# EAGLE library part 68HC908JK3 (library MOTOROLA)
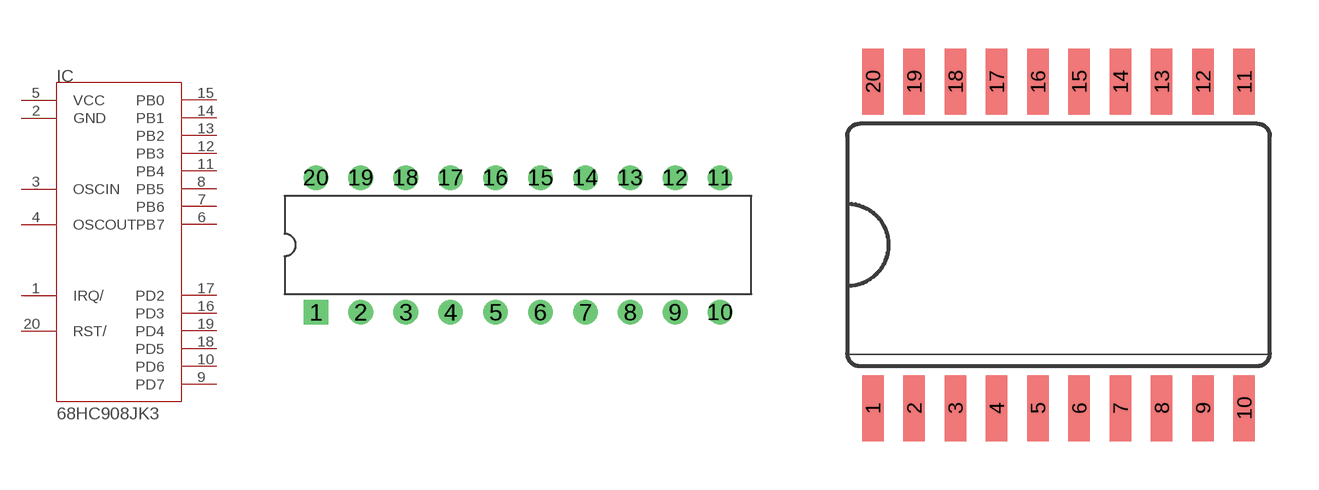
[diagram p52: symbol with the pads of DIL20; footprints DIL20, SOIC20W]

Designator prefix IC

## 68HC908JK3  [DIL20]
1  IRQ/
2  GND
3  OSCIN
4  OSCOUT
5  VCC
6  PB7
7  PB6
8  PB5
9  PD7
10  PD6
11  PB4
12  PB3
13  PB2
14  PB1
15  PB0
16  PD3
17  PD2
18  PD5
19  PD4
20  RST/

## 68HC908JK3SMD  [SOIC20W]
Pads as for DIL20

## Footprint DIL20 (pad centres in mm)
drill 0.813 pad 1.397 square: 1 -11.43,-3.81
drill 0.813 pad 1.397 round: 2 -8.89,-3.81; 3 -6.35,-3.81; 4 -3.81,-3.81; 5 -1.27,-3.81; 6 1.27,-3.81; 7 3.81,-3.81; 8 6.35,-3.81; 9 8.89,-3.81; 10 11.43,-3.81; 11 11.43,3.81; 12 8.89,3.81; 13 6.35,3.81; 14 3.81,3.81; 15 1.27,3.81; 16 -1.27,3.81; 17 -3.81,3.81; 18 -6.35,3.81; 19 -8.89,3.81; 20 -11.43,3.81

## Footprint SOIC20W (pad centres in mm)
smd 0.66 x 2.032: 1 -5.08,-5.029; 2 -3.81,-5.029; 3 -2.54,-5.029; 4 -1.27,-5.029; 5 0,-5.029; 6 1.27,-5.029; 7 2.54,-5.029; 8 3.81,-5.029; 9 5.08,-5.029; 10 6.35,-5.029; 11 6.35,5.029; 12 5.08,5.029; 13 3.81,5.029; 14 2.54,5.029; 15 1.27,5.029; 16 0,5.029; 17 -1.27,5.029; 18 -2.54,5.029; 19 -3.81,5.029; 20 -5.08,5.029